# EAGLE library part ICL8038 (library 00_steve)
ICL8038 Intersil ICL8038 Precision Waveform Generator/ Voltage Controlled Oscillator
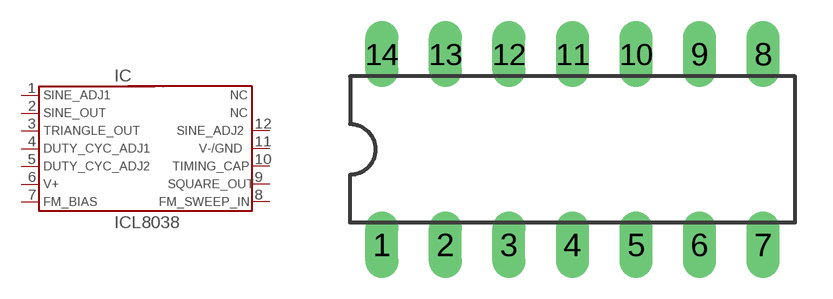
[diagram p1: symbol with the pads of ICL8038; footprint ICL8038]

Designator prefix IC

## ICL8038  [ICL8038]
1  1  pas
2  2  pas
3  3  pas
4  4  pas
5  5  pas
6  6  pas
7  7  pas
8  8  pas
9  9  pas
10  10  pas
11  11  pas
12  12  pas

## Footprint ICL8038 (pad centres in mm)
drill 0.813 long: 1 -7.62,-3.81; 2 -5.08,-3.81; 3 -2.54,-3.81; 4 0,-3.81; 5 2.54,-3.81; 6 5.08,-3.81; 7 7.62,-3.81; 8 7.62,3.81; 9 5.08,3.81; 10 2.54,3.81; 11 0,3.81; 12 -2.54,3.81; 13 -5.08,3.81; 14 -7.62,3.81